# EAGLE library part ER-OLED-.96 (library AWJLEagleLib)
Taken from: http://www.buydisplay.com/download/manual/ER-OLED0.96_Series_Datasheet.pdf
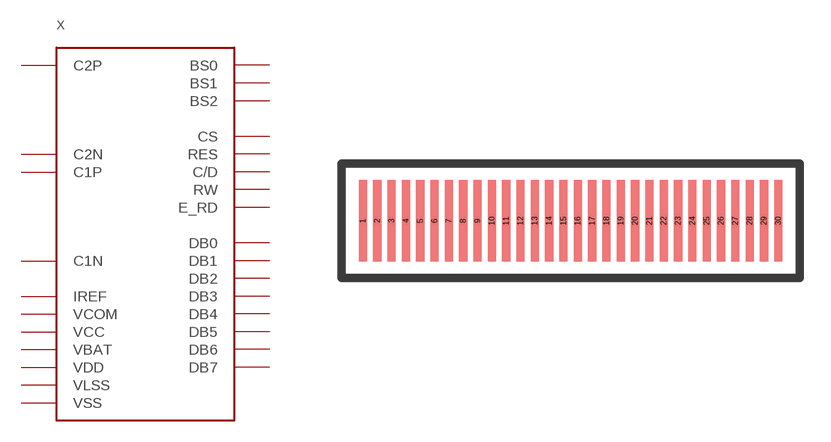
[diagram p25: symbol with the pads of ER-OLED-0.96; footprint ER-OLED-0.96]

Designator prefix X

## ER-OLED-.96  [ER-OLED-0.96]
2  C2P
3  C2N
4  C1P
5  C1N
6  VBAT
8  VSS
9  VDD
10  BS0
11  BS1
12  BS2
13  CS
14  RES
15  C/D
16  RW
17  E_RD
18  DB0
19  DB1
20  DB2
21  DB3
22  DB4
23  DB5
24  DB6
25  DB7
26  IREF
27  VCOM
28  VCC
29  VLSS

## Footprint ER-OLED-0.96 (pad centres in mm)
ER-OLED 0.96 Taken from: http://www.buydisplay.com/download/manual/ER-OLED0.96_Series_Datasheet.pdf
smd 0.4 x 4: 1 -10.15,0; 2 -9.45,0; 3 -8.75,0; 4 -8.05,0; 5 -7.35,0; 6 -6.65,0; 7 -5.95,0; 8 -5.25,0; 9 -4.55,0; 10 -3.85,0; 11 -3.15,0; 12 -2.45,0; 13 -1.75,0; 14 -1.05,0; 15 -0.35,0; 16 0.35,0; 17 1.05,0; 18 1.75,0; 19 2.45,0; 20 3.15,0; 21 3.85,0; 22 4.55,0; 23 5.25,0; 24 5.95,0; 25 6.65,0; 26 7.35,0; 27 8.05,0; 28 8.75,0; 29 9.45,0; 30 10.15,0